# EAGLE library part SFM-120-02-X-DH (library SFM-120-02-X-DH)
0.050"X0.050" SOCKET STRIP ASSEMBLY.
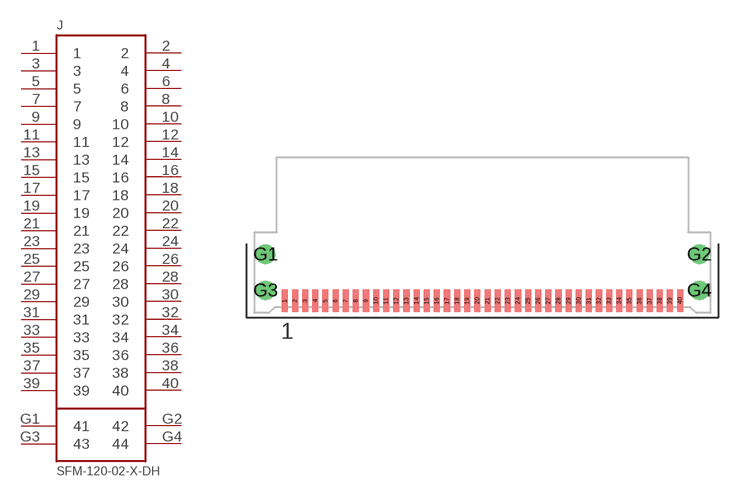
[diagram p0: symbol with the pads of SFM-120-02-X-DH; footprint SFM-120-02-X-DH]

Designator prefix J

## SFM-120-02-X-DH  [SFM-120-02-X-DH]
1  1
2  2
3  3
4  4
5  5
6  6
7  7
8  8
9  9
10  10
11  11
12  12
13  13
14  14
15  15
16  16
17  17
18  18
19  19
20  20
21  21
22  22
23  23
24  24
25  25
26  26
27  27
28  28
29  29
30  30
31  31
32  32
33  33
34  34
35  35
36  36
37  37
38  38
39  39
40  40
G1  41
G2  42
G3  43
G4  44

## Footprint SFM-120-02-X-DH (pad centres in mm)
0.050"X0.050" SOCKET STRIP ASSEMBLY.
smd 0.381 x 1.397: 1 -12.383,-4.051; 2 -11.748,-4.051; 3 -11.113,-4.051; 4 -10.477,-4.051; 5 -9.842,-4.051; 6 -9.207,-4.051; 7 -8.572,-4.051; 8 -7.938,-4.051; 9 -7.303,-4.051; 10 -6.668,-4.051; 11 -6.032,-4.051; 12 -5.397,-4.051; 13 -4.763,-4.051; 14 -4.128,-4.051; 15 -3.493,-4.051; 16 -2.857,-4.051; 17 -2.223,-4.051; 18 -1.587,-4.051; 19 -0.953,-4.051; 20 -0.318,-4.051; 21 0.318,-4.051; 22 0.953,-4.051; 23 1.587,-4.051; 24 2.223,-4.051; 25 2.857,-4.051; 26 3.493,-4.051; 27 4.128,-4.051; 28 4.763,-4.051; 29 5.397,-4.051; 30 6.032,-4.051; 31 6.668,-4.051; 32 7.303,-4.051; 33 7.938,-4.051; 34 8.572,-4.051; 35 9.207,-4.051; 36 9.842,-4.051; 37 10.477,-4.051; 38 11.113,-4.051; 39 11.748,-4.051; 40 12.383,-4.051
drill 0.711 pad 1.143 round: G1 -13.589,-1.143; G2 13.589,-1.143; G3 -13.589,-3.404; G4 13.589,-3.404